# Altium footprint library 测试点.PcbLib: 11 footprints
Each footprint in its own frame and in the unit in brackets; x right, y up, seen from the top. Pads: shape width x height; smd on the part's side, far side on the other; paste and mask are expansions set on the pad; w line width, h text height; cw(c..) or ccw(c..) is an arc to the next point about the centre after c.
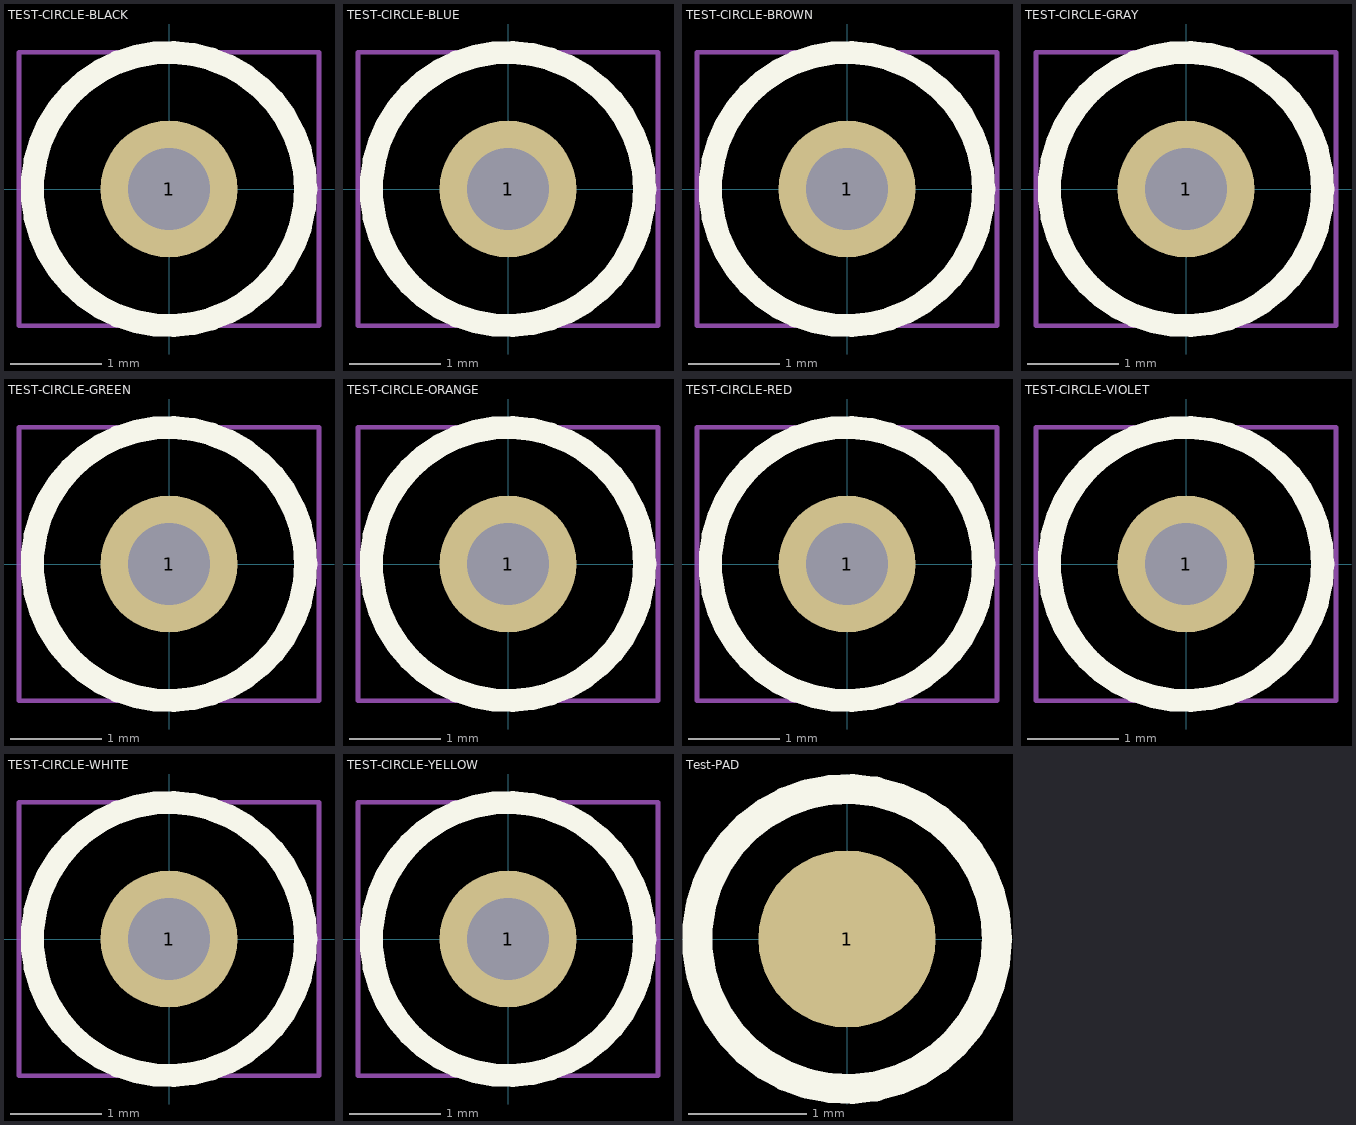
[diagram p0: the footprints below, top view; thin cyan lines are the x and y axes]

## TEST-CIRCLE-BLACK [mm] "针式测试环"
height 5
pads (1):
  round 1.5 hole 0.9 unplated: 1(0,0)
Top Overlay:
  circle w0.254: c0,0 r1.5
Mechanical 13:
  lines w0.05: -1.646,-1.5 -1.646,1.5 1.646,1.5 1.646,-1.5 -1.646,-1.5
3D body: height 5.12, standoff -4.51, extent -1.646,-1.5 1.646,1.5

## TEST-CIRCLE-BLUE [mm] "针式测试环"
height 5
pads (1):
  round 1.5 hole 0.9 unplated: 1(0,0)
Top Overlay:
  circle w0.254: c0,0 r1.5
Mechanical 13:
  lines w0.05: -1.646,-1.5 -1.646,1.5 1.646,1.5 1.646,-1.5 -1.646,-1.5
3D body: height 5.12, standoff -4.51, extent -1.646,-1.5 1.646,1.5

## TEST-CIRCLE-BROWN [mm] "针式测试环"
height 5
pads (1):
  round 1.5 hole 0.9 unplated: 1(0,0)
Top Overlay:
  circle w0.254: c0,0 r1.5
Mechanical 13:
  lines w0.05: -1.646,-1.5 1.646,-1.5 1.646,1.5 -1.646,1.5 -1.646,-1.5
3D body: height 5.12, standoff -4.51, extent -1.646,-1.5 1.646,1.5

## TEST-CIRCLE-GRAY [mm] "针式测试环"
height 5
pads (1):
  round 1.5 hole 0.9 unplated: 1(0,0)
Top Overlay:
  circle w0.254: c0,0 r1.5
Mechanical 13:
  lines w0.05: -1.646,-1.5 -1.646,1.5 1.646,1.5 1.646,-1.5 -1.646,-1.5
3D body: height 5.12, standoff -4.51, extent -1.646,-1.5 1.646,1.5

## TEST-CIRCLE-GREEN [mm] "针式测试环"
height 5
pads (1):
  round 1.5 hole 0.9 unplated: 1(0,0)
Top Overlay:
  circle w0.254: c0,0 r1.5
Mechanical 13:
  lines w0.05: -1.646,-1.5 -1.646,1.5 1.646,1.5 1.646,-1.5 -1.646,-1.5
3D body: height 5.12, standoff -4.51, extent -1.646,-1.5 1.646,1.5

## TEST-CIRCLE-ORANGE [mm] "针式测试环"
height 5
pads (1):
  round 1.5 hole 0.9 unplated: 1(0,0)
Top Overlay:
  circle w0.254: c0,0 r1.5
Mechanical 13:
  lines w0.05: -1.646,-1.5 1.646,-1.5 1.646,1.5 -1.646,1.5 -1.646,-1.5
3D body: height 5.12, standoff -4.51, extent -1.646,-1.5 1.646,1.5

## TEST-CIRCLE-RED [mm] "针式测试环"
height 5
pads (1):
  round 1.5 hole 0.9 unplated: 1(0,0)
Top Overlay:
  circle w0.254: c0,0 r1.5
Mechanical 13:
  lines w0.05: -1.646,-1.5 1.646,-1.5 1.646,1.5 -1.646,1.5 -1.646,-1.5
3D body: height 5.12, standoff -4.51, extent -1.646,-1.5 1.646,1.5

## TEST-CIRCLE-VIOLET [mm] "针式测试环"
height 5
pads (1):
  round 1.5 hole 0.9 unplated: 1(0,0)
Top Overlay:
  circle w0.254: c0,0 r1.5
Mechanical 13:
  lines w0.05: -1.646,-1.5 1.646,-1.5 1.646,1.5 -1.646,1.5 -1.646,-1.5
3D body: height 5.12, standoff -4.51, extent -1.646,-1.5 1.646,1.5

## TEST-CIRCLE-WHITE [mm] "针式测试环"
height 5
pads (1):
  round 1.5 hole 0.9 unplated: 1(0,0)
Top Overlay:
  circle w0.254: c0,0 r1.5
Mechanical 13:
  lines w0.05: -1.646,-1.5 -1.646,1.5 1.646,1.5 1.646,-1.5 -1.646,-1.5
3D body: height 5.12, standoff -4.51, extent -1.646,-1.5 1.646,1.5

## TEST-CIRCLE-YELLOW [mm] "针式测试环"
height 5
pads (1):
  round 1.5 hole 0.9 unplated: 1(0,0)
Top Overlay:
  circle w0.254: c0,0 r1.5
Mechanical 13:
  lines w0.05: -1.646,-1.5 -1.646,1.5 1.646,1.5 1.646,-1.5 -1.646,-1.5
3D body: height 5.12, standoff -4.51, extent -1.646,-1.5 1.646,1.5

## Test-PAD [mm] "测试焊盘"
pads (1):
  round 1.5 smd: 1(0,0)
Top Overlay:
  circle w0.254: c0,0 r1.27